# EAGLE library part CLP6C-FKB-CKNPRGJBB7A363 (library mbed-HDK-Optical)
LED RGB SMD Diffused
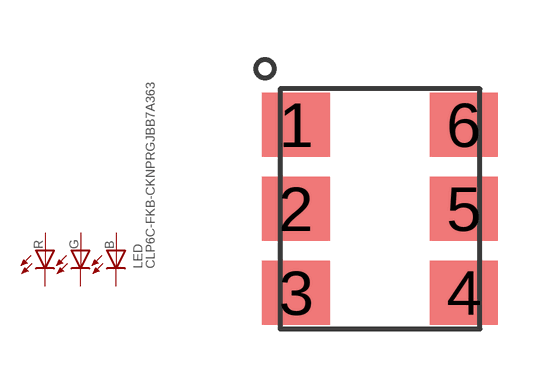
[diagram p1: symbol with the pads of 6-PLCC; footprint 6-PLCC]

Designator prefix LED

## CLP6C-FKB-CKNPRGJBB7A363 (MF: Cree Inc.; MFN: CLP6C-FKB-CKNPRGJBB7A363; OC-DIGIKEY: CLP6C-FKB-CKNPRGJBB7A363CT-ND; OC-MOUSER: 941-P6CFKBCKNPRGJ7A3; OC-NEWARK: 11X6459)  [6-PLCC]
1  1  pas
2  2  pas
3  3  pas
4  4  pas
5  5  pas
6  6  pas

## Footprint 6-PLCC (pad centres in mm)
smd 1.7 x 1.6: 1 0,4.2; 2 0,2.1; 3 0,0; 4 4.2,0; 5 4.2,2.1; 6 4.2,4.2